# EAGLE library part FH19C-10S-0.5SH (library SSI)
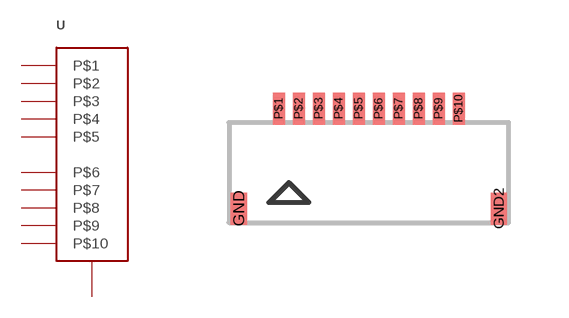
[diagram p27: symbol with the pads of FH19C-10S-0.5SH; footprint FH19C-10S-0.5SH]

Designator prefix -

## FH19C-10S-0.5SH  [FH19C-10S-0.5SH]
GND  GND
GND2  GND
P$1  P$1
P$2  P$2
P$3  P$3
P$4  P$4
P$5  P$5
P$6  P$6
P$7  P$7
P$8  P$8
P$9  P$9
P$10  P$10

## Footprint FH19C-10S-0.5SH (pad centres in mm)
smd 0.4 x 0.8: GND -3.25,-0.92; GND2 3.25,-0.92
smd 0.3 x 0.8: P$1 -2.25,1.58; P$2 -1.75,1.58; P$3 -1.25,1.58; P$4 -0.75,1.58; P$5 -0.25,1.58; P$6 0.25,1.58; P$7 0.75,1.58; P$8 1.25,1.58; P$9 1.75,1.58; P$10 2.25,1.58